# Altium footprint library footprints.PcbLib: 13 footprints
Each footprint in its own frame and in the unit in brackets; x right, y up, seen from the top. Pads: shape width x height; smd on the part's side, far side on the other; paste and mask are expansions set on the pad; w line width, h text height; cw(c..) or ccw(c..) is an arc to the next point about the centre after c.
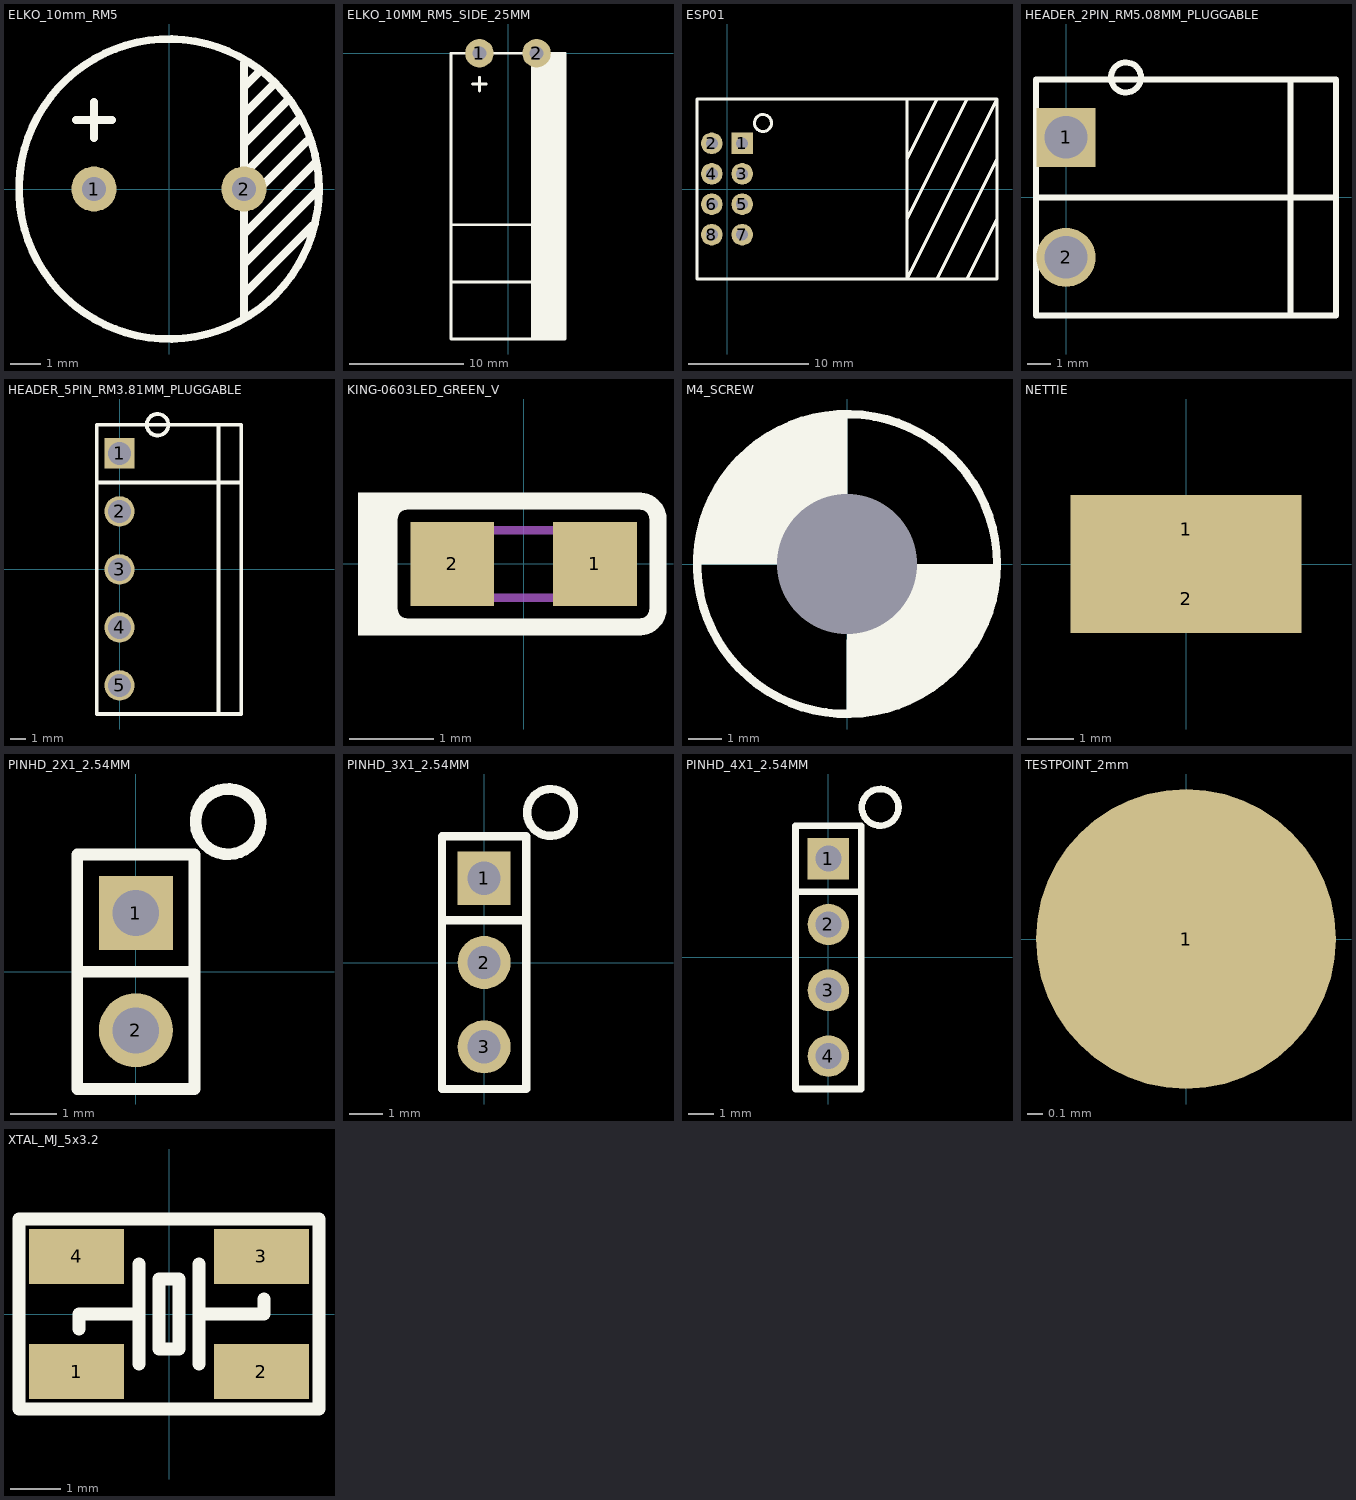
[diagram p0: the footprints below, top view; thin cyan lines are the x and y axes]

## ELKO_10mm_RM5 [mm]
pads (2):
  round 1.5 hole 0.8: 1(-2.5,0) 2(2.5,0)
Top Overlay:
  circle w0.254: c0,0 r5
  lines w0.254: -3.1,2.3 -1.9,2.3 ; -2.5,1.7 -2.5,2.9 ; 2.5,-4.3 2.5,4.2 ; 2.5,-3.5 4.8,-1.2 ; 2.5,-2.5 5,0 ; 2.5,-1.5 4.9,0.9 ; 2.5,-0.5 4.6,1.6 ; 2.5,0.5 4.3,2.3 ; 2.5,1.5 4,3 ; 2.5,2.5 3.5,3.5 ; 2.5,3.4 3,3.9

## ELKO_10MM_RM5_SIDE_25MM [mm]
pads (2):
  round 2.5 hole 1.2: 1(-2.5,0) 2(2.5,0)
Top Overlay:
  rectangle: 2,-25 5,0
  lines w0.254: -5,-20 5,-20 ; -5,-15 5,-15 ; -3.1,-2.7 -1.9,-2.7 ; -2.5,-3.3 -2.5,-2.1 ; -5,-25 5,-25 5,0 -5,0 -5,-25

## ESP01 [mm] "ESP-01 ESP8266 Wifi Module"
pads (8):
  rect 1.8x1.8 hole 1: 1(1.27,3.81)
  round 1.8 hole 1: 2(-1.27,3.81) 3(1.27,1.27) 4(-1.27,1.27) 5(1.27,-1.27) 6(-1.27,-1.27) 7(1.27,-3.81) 8(-1.27,-3.81)
Top Overlay:
  lines w0.254: 3.706,5.544 ccw(c3,5.5) 3.707,5.5 ; 15,7.5 15,-7.5 22.5,7.5 ; 17.5,7.5 15,2.5 15,-2.5 20,7.5 ; 22.5,-2.5 20,-7.5 17.5,-7.5 22.5,2.5 22.5,7.5 ; 22.5,7.5 22.5,-7.5 -2.5,-7.5 -2.5,7.5 22.5,7.5
Bottom Overlay:
  circle w0.254: c3,5.5 r0.707
  text "TX" at -3,3.25 h1.3
  text "PD" at -3,0.75 h1.3
  text "RST" at -3,-2 h1.3
  text "VCC" at -3,-4.5 h1.3
  text "RX" at 5,-4.5 h1.3
  text "GPIO0" at 8.75,-2 h1.3
  text "GPIO2" at 8.75,0.75 h1.3
  text "GND" at 6.5,3 h1.3

## HEADER_2PIN_RM5.08MM_PLUGGABLE [mm] "Pluggable Header 2 pin RM 5.08mm"
pads (2):
  rect 2.5x2.5 / inner round 3.6 / far side rect 3.6x2.8 hole 1.8: 1(0,2.54)
  round 2.5 / inner round 3.6 / far side oval 3.6x2.8 hole 1.8: 2(0,-2.54)
Top Overlay:
  circle w0.254: c2.54,5.08 r0.635
  lines w0.254: -1.27,0 11.43,0 ; 9.5,-5 9.5,5 ; -1.27,-5 -1.27,5 11.43,5 11.43,-5 -1.27,-5
Bottom Overlay:
  circle w0.254: c2.54,5.08 r0.635

## HEADER_5PIN_RM3.81MM_PLUGGABLE [mm] "Pluggable Header 5 pin RM 3.81mm"
pads (5):
  rect 2x2 / inner oval 4x3 / far side rect 3.5x2.8 hole 1.5: 1(0,7.62)
  round 2 / inner oval 4x3 / far side oval 3.5x2.8 hole 1.5: 2(0,3.81) 3(0,0) 4(0,-3.81) 5(0,-7.62)
Top Overlay:
  circle w0.254: c2.5,9.5 r0.707
  lines w0.254: -1.5,5.715 8,5.715 ; 6.5,-9.5 6.5,9.5 ; -1.5,-9.5 8,-9.5 8,9.5 -1.5,9.5 -1.5,-9.5
Bottom Overlay:
  circle w0.254: c2.5,9.5 r0.707

## KING-0603LED_GREEN_V [mm] "SMT LED, 2-Leads, Body 1.6x0.8mm (0603-Size)"
pads (2):
  rect 1x1 smd paste+0 mask+0: 1(0.85,0) 2(-0.85,0)
Top Overlay:
  rectangle: -1.782,0.665 -1.132,0.851
  rectangle: -1.973,-0.851 -1.516,0.851
  rectangle: -1.782,-0.851 -1.198,-0.686
  lines w0.203: -1.602,-0.533 ccw(c-1.386,-0.533) -1.386,-0.749 1.386,-0.749 ccw(c1.386,-0.533) 1.602,-0.533 1.602,0.533 ccw(c1.386,0.533) 1.386,0.749 -1.386,0.749 ccw(c-1.386,0.533) -1.602,0.533 -1.602,-0.533
Mechanical 7:
  lines w0.1: -0.8,-0.4 -0.8,0.4 0.8,0.4 0.8,-0.4 -0.8,-0.4
  text ".Comment" at -1.6,-0.9 h0.4
  text ".Designator" at -1.6,0.6 h0.4
3D body: height 1, standoff 0, extent -0.301,-0.464 0.493,0.402
3D body: height 1.1, standoff 0, extent -0.502,-0.533 0.668,0.533
3D body: height 0.5, standoff 0, extent -0.925,-0.535 -0.5,0.535
3D body: height 0.5, standoff 0, extent 0.664,-0.532 1.089,0.532

## M4_SCREW [mm] "Hole for M4 screw with head"
pads (1):
  round 0 hole 4.2 unplated: 1(0,0)
Top Overlay:
  circle w0.254: c0,0 r4.5
  region: 0,0 -4.5,0 -4.5,0.295 -4.423,0.88 -4.27,1.45 -4.045,1.995 -3.75,2.505 -3.391,2.973 -2.973,3.391 -2.505,3.75 -1.995,4.045 -1.45,4.27 -0.88,4.423 -0.295,4.5 0,4.5
  region: 0,0 4.5,0 4.5,-0.295 4.423,-0.88 4.27,-1.45 4.045,-1.995 3.75,-2.505 3.391,-2.973 2.973,-3.391 2.505,-3.75 1.995,-4.045 1.45,-4.27 0.88,-4.423 0.295,-4.5 0,-4.5
Bottom Overlay:
  circle w0.254: c0,0 r4.5
  region: 0,0 4.5,0 4.5,-0.295 4.423,-0.88 4.27,-1.45 4.045,-1.995 3.75,-2.505 3.391,-2.973 2.973,-3.391 2.505,-3.75 1.995,-4.045 1.45,-4.27 0.88,-4.423 0.295,-4.5 0,-4.5
  region: 0,0 -4.5,0 -4.5,0.295 -4.423,0.88 -4.27,1.45 -4.045,1.995 -3.75,2.505 -3.391,2.973 -2.973,3.391 -2.505,3.75 -1.995,4.045 -1.45,4.27 -0.88,4.423 -0.295,4.5 0,4.5

## NETTIE [mm] "Net tie"
pads (2):
  rect 5x1.5 smd: 1(0,0.75) 2(0,-0.75)

## PINHD_2X1_2.54MM [mm] "Pin Header 1 row 2 pin RM 2.54mm"
pads (2):
  rect 1.6x1.6 hole 1: 1(0,1.27)
  round 1.6 hole 1: 2(0,-1.27)
Top Overlay:
  circle w0.254: c2,3.25 r0.707
  lines w0.254: 1.27,0 -1.27,0 -1.27,-2.54 ; -1.27,-2.54 1.27,-2.54 1.27,2.54 -1.27,2.54 -1.27,-2.54

## PINHD_3X1_2.54MM [mm] "Pin Header 1 row 3 pin RM 2.54mm"
pads (3):
  rect 1.6x1.6 hole 1: 1(0,2.54)
  round 1.6 hole 1: 2(0,0) 3(0,-2.54)
Top Overlay:
  circle w0.254: c2,4.52 r0.707
  lines w0.254: -1.27,-1.27 -1.27,3.81 1.27,3.81 1.27,-3.81 -1.27,-3.81 -1.27,1.27 1.27,1.27

## PINHD_4X1_2.54MM [mm] "Pin Header 1 row 4 pin RM 2.54mm"
pads (4):
  rect 1.6x1.6 hole 1: 1(0,3.81)
  round 1.6 hole 1: 2(0,1.27) 3(0,-1.27) 4(0,-3.81)
Top Overlay:
  circle w0.254: c2,5.79 r0.707
  lines w0.254: -1.27,0 -1.27,5.08 1.27,5.08 1.27,-5.08 -1.27,-5.08 -1.27,2.54 1.27,2.54

## TESTPOINT_2mm [mm] "Testpoint SMD 2mm dia"
pads (1):
  round 2 smd: 1(0,0)

## XTAL_MJ_5x3.2 [mm]
pads (4):
  rect 1.9x1.1 smd: 1(-1.85,-1.15) 2(1.85,-1.15) 3(1.85,1.15) 4(-1.85,1.15)
Top Overlay:
  lines w0.254: -1.8,-0.3 -1.8,0 -0.6,0 ; -0.6,-1 -0.6,1 ; 0.6,-1 0.6,1 ; 0.6,0 1.9,0 1.9,0.3 ; -3,-1.9 -3,1.9 3,1.9 3,-1.9 -3,-1.9 ; -0.2,-0.7 -0.2,0.7 0.2,0.7 0.2,-0.7 -0.2,-0.7